# Altium footprint library vaja_1_lib.PcbLib: 3 footprints
Each footprint in its own frame and in the unit in brackets; x right, y up, seen from the top. Pads: shape width x height; smd on the part's side, far side on the other; paste and mask are expansions set on the pad; w line width, h text height; cw(c..) or ccw(c..) is an arc to the next point about the centre after c.
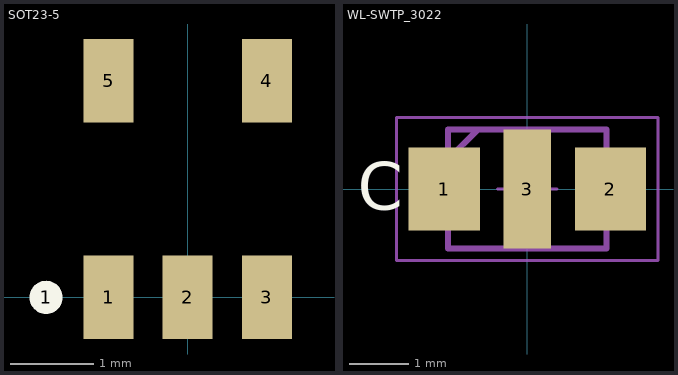
[diagram p0: the footprints below, top view; thin cyan lines are the x and y axes]

## PCBComponent_1 [mm]

## SOT23-5 [mm] "SOT143-4 as used in SP0503BAHTG"
pads (6):
  round 0.4 on Top Overlay: 1(-1.7,0)
  rect 0.6x1 smd: 1(-0.95,0) 2(0,0) 3(0.95,0) 4(0.95,2.6) 5(-0.95,2.6)
3D body "SOT235.step": height 1, standoff 0, extent -1.46,0.13 1.46,2.47

## WL-SWTP_3022 [mm] "SMD White Top view PLCC, body 3x2.1mm"
height 0.8
pads (3):
  rect 1.2x1.4 smd: 1(-1.4,0) 2(1.4,0)
  rect 0.8x2 smd: 3(0,0)
Top Overlay:
  text "C" at -2.85,-0.35 h0.8
Mechanical 11:
  lines w0.1: -1.335,0.5 -0.835,1 ; -1.335,-1 1.335,-1 1.335,1 -1.335,1 -1.335,-1
  text ".Designator" at -1.15,-0.475 h1
Mechanical 13:
  lines w0.1: -1.335,0.5 -0.835,1 ; -1.335,-1 -1.335,1 1.335,1 1.335,-1 -1.335,-1
Mechanical 15:
  lines w0.05: -0.5,0 0.5,0 ; 0,-0.5 0,0.5 ; -2.2,-1.2 2.2,-1.2 2.2,1.2 -2.2,1.2 -2.2,-1.2
3D body "WL-SWTP_158302xxx.stp": height 0.8, standoff 0, extent -1.5,-1 1.5,1